# EAGLE library part 74*191 (library 74xx-eu)
Synchronous UP/DOWN COUNTER
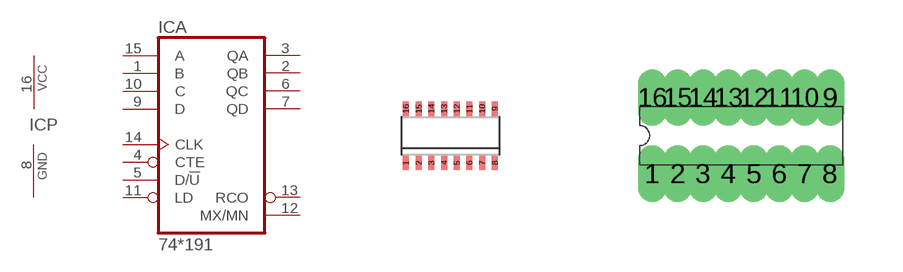
[diagram p131: symbol with the pads of SO16D; footprints SO16D, DIL16]

Designator prefix IC; gates A=74190-1 P=PWRN-1

## 74191D, 74HC191D, 74HCT191D  [SO16D]
1  A:B  in
2  A:QB  out
3  A:QA  out
4  A:CTE  in
5  A:D/!U  in
6  A:QC  out
7  A:QD  out
8  P:GND  pwr
9  A:D  in
10  A:C  in
11  A:LD  in
12  A:MX/MN  out
13  A:RCO  out
14  A:CLK  in
15  A:A  in
16  P:VCC  pwr

## 74191N, 74HC191N, 74HCT191N, 74LS191N  [DIL16]
Pads as for SO16D

## 74191NS, 74HC191NS, 74HCT191NS  [SO16NS]
Pads as for SO16D

## 74191PW, 74HC191PW, 74HCT191PW  [SO16PW]
Pads as for SO16D

## Footprint SO16D (pad centres in mm)
Platic Small Outline D R-PDSO-G16 Source: www.ti.com .. cd74hct191.pdf
smd 0.15 x 0.35: 1 -1.111,-0.679; 2 -0.794,-0.679; 3 -0.476,-0.679; 4 -0.159,-0.679; 5 0.159,-0.679; 6 0.476,-0.679; 7 0.794,-0.679; 8 1.111,-0.679; 9 1.111,0.679; 10 0.794,0.679; 11 0.476,0.679; 12 0.159,0.679; 13 -0.159,0.679; 14 -0.476,0.679; 15 -0.794,0.679; 16 -1.111,0.679

## Footprint DIL16 (pad centres in mm)
Dual In Line Package
drill 0.203 long: 1 -2.223,-0.953; 2 -1.587,-0.953; 3 -0.953,-0.953; 4 -0.318,-0.953; 5 0.318,-0.953; 6 0.953,-0.953; 7 1.587,-0.953; 8 2.223,-0.953; 9 2.223,0.953; 10 1.587,0.953; 11 0.953,0.953; 12 0.318,0.953; 13 -0.318,0.953; 14 -0.953,0.953; 15 -1.587,0.953; 16 -2.223,0.953

## Footprint SO16NS (pad centres in mm)
Platic Small Outline NS R-PDSO-G16 Source: www.ti.com .. cd74hct191.pdf
smd 0.15 x 0.375: 1 -1.111,-0.873; 2 -0.794,-0.873; 3 -0.476,-0.873; 4 -0.159,-0.873; 5 0.159,-0.873; 6 0.476,-0.873; 7 0.794,-0.873; 8 1.111,-0.873; 9 1.111,0.873; 10 0.794,0.873; 11 0.476,0.873; 12 0.159,0.873; 13 -0.159,0.873; 14 -0.476,0.873; 15 -0.794,0.873; 16 -1.111,0.873

## Footprint SO16PW (pad centres in mm)
SO16-pw R-PDSO-G Source: www.ti.com .. cd74hct191.pdf
smd 0.087 x 0.3: 1 -0.569,-0.706; 2 -0.406,-0.706; 3 -0.244,-0.706; 4 -0.081,-0.706; 5 0.081,-0.706; 6 0.244,-0.706; 7 0.406,-0.706; 8 0.569,-0.706; 9 0.569,0.706; 10 0.406,0.706; 11 0.244,0.706; 12 0.081,0.706; 13 -0.081,0.706; 14 -0.244,0.706; 15 -0.406,0.706; 16 -0.569,0.706